# Altium footprint library Passive_Old.PcbLib: 221 footprints (part 14 of 14)
Each footprint in its own frame and in the unit in brackets; x right, y up, seen from the top. Pads: shape width x height; smd on the part's side, far side on the other; paste and mask are expansions set on the pad; w line width, h text height; cw(c..) or ccw(c..) is an arc to the next point about the centre after c.
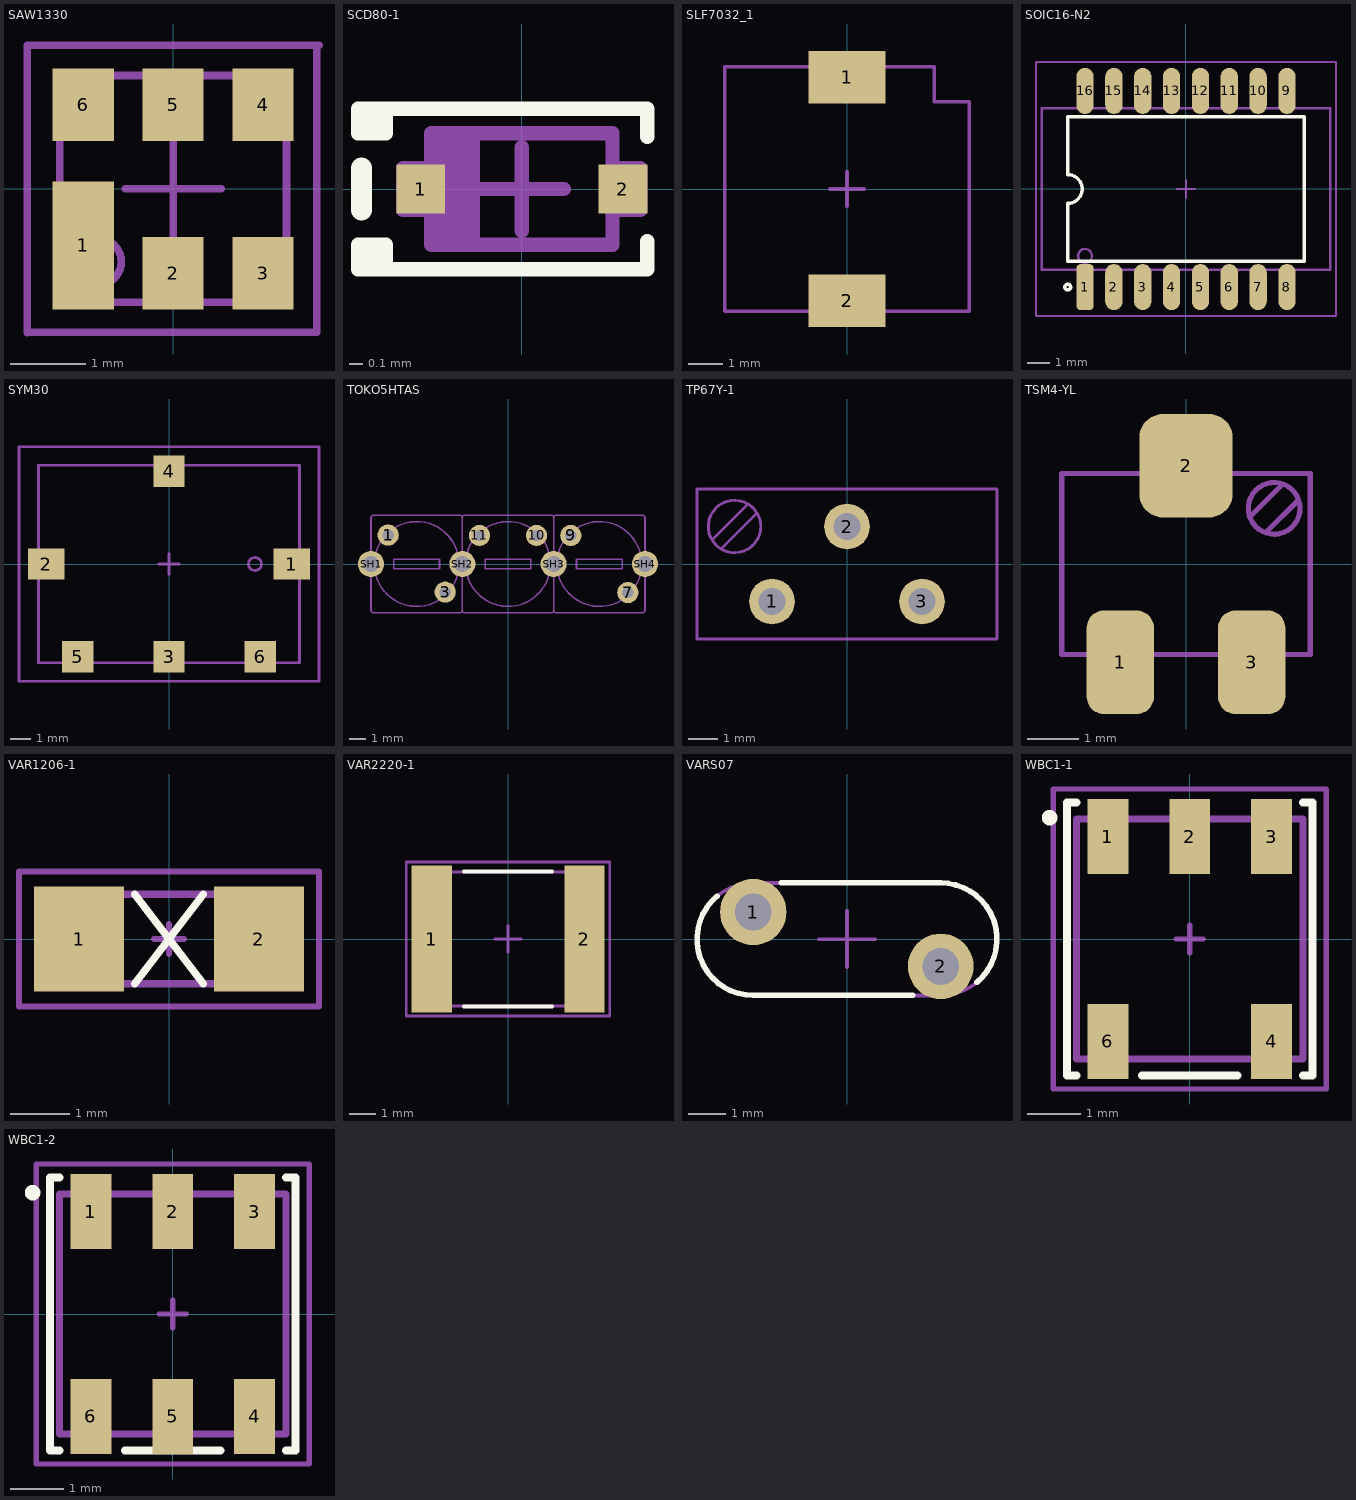
[diagram p13: the footprints below, top view; thin cyan lines are the x and y axes]

## SAW1330 [mm] "SAW filter 8 pin 5MM + 6 PIN 3.8MM; R1.27mm"
height 1.35
pads (6):
  rect 0.81x1.7 smd: 1(-1.19,-0.75)
  rect 0.81x0.96 smd: 2(0,-1.115) 3(1.19,-1.115) 4(1.19,1.115) 5(0,1.115) 6(-1.19,1.115)
Mechanical 13:
  circle w0.102: c-0.991,-0.965 r0.305
  lines w0.1: -1.5,-1.5 -1.5,1.5 1.5,1.5 1.5,-1.5 -1.5,-1.5
Mechanical 15:
  lines w0.102: -1.93,-1.905 -1.93,1.9 1.93,1.9 ; -1.9,-1.9 1.9,-1.9 1.9,1.9 ; -0.635,0 0.635,0 ; 0,-0.635 0,0.635
3D body: height 1.35, standoff 0, extent -1.473,-1.448 1.448,1.448

## SCD80-1 [mm] "SCD80 diode"
height 0.7
pads (2):
  rect 0.35x0.35 smd mask+0.025: 1(-0.725,0) 2(0.725,0)
Top Overlay:
  lines w0.102: -1.1,-0.575 0.9,-0.575 ; -1.1,0.575 0.9,0.575 ; -1.075,-0.4 -1.075,-0.575 -0.975,-0.575 -0.975,-0.4 -1.175,-0.4 -1.175,-0.575 -0.85,-0.575 ; -1.075,0.4 -1.075,0.575 -0.975,0.575 -0.975,0.4 -1.175,0.4 -1.175,0.575 -0.85,0.575 ; 0.9,-0.55 0.9,-0.375 ; 0.9,0.375 0.9,0.55
  lines w0.15: -1.15,-0.15 -1.15,0.15
Top Solder:
  pour cut-out: 0.473,-0.252 0.977,-0.252 0.977,0.251 0.473,0.251 0.473,0 0.524,0 0.524,0.201 0.926,0.201 0.926,-0.201 0.524,-0.201 0.524,0 0.473,0
  pour cut-out: -0.473,-0.252 -0.977,-0.252 -0.977,0.251 -0.473,0.251 -0.473,0 -0.524,0 -0.524,0.201 -0.926,0.201 -0.926,-0.201 -0.524,-0.201 -0.524,0 -0.473,0
Mechanical 13:
  lines w0.102: -0.65,-0.15 -0.85,-0.15 -0.85,0.15 -0.65,0.15 ; -0.55,-0.4 -0.55,0.4 ; -0.45,-0.4 -0.45,0.4 ; -0.35,-0.4 -0.35,0.4 ; 0.65,-0.15 0.85,-0.15 0.85,0.15 0.65,0.15 ; -0.65,-0.4 0.65,-0.4 0.65,0.4 -0.65,0.4 -0.65,0 -0.65,-0.4
Mechanical 15:
  lines w0.102: -0.3,0 0.3,0 ; 0,-0.3 0,0.3
3D body: height 0.13, standoff 0, extent -0.85,-0.15 -0.65,0.15
3D body: height 0.71, standoff 0.7, extent -0.65,-0.4 -0.35,0.4
3D body: height 0.7, standoff 0, extent -0.65,-0.4 0.65,0.4
3D body: height 0.13, standoff 0, extent 0.65,-0.15 0.85,0.15

## SLF7032_1 [mm] "SMD Inductor for power line"
height 3.2
pads (2):
  rect 2.2x1.5 smd: 1(0,3.2) 2(0,-3.2)
Mechanical 13:
  lines w0.102: -3.5,-3.5 -3.5,3.5 2.5,3.5 2.5,2.5 3.5,2.5 3.5,-3.5 -3.5,-3.5
Mechanical 15:
  lines w0.102: -0.5,0 0.5,0 ; 0,-0.5 0,0.5
3D body: height 0.1, standoff 0, extent -1.1,2.425 1.1,3.5
3D body: height 0.1, standoff 0, extent -1.1,-3.5 1.1,-2.425
3D body: height 3, standoff 0.1, extent -3.5,-3.5 3.5,3.5
3D body: height 3.19, standoff 3, extent -3.511,-3.511 3.511,3.511
3D body: height 3.2, standoff 3.19, extent -1.211,1.4 1.206,2.111

## SOIC16-N2 [mil] "Small IC 16 pin transformer"
height 200
pads (16):
  rrect50% 30x80 smd: 1(-175,-170)
  oval 30x80 smd: 2(-125,-170) 3(-75,-170) 4(-25,-170) 5(25,-170) 6(75,-170) 7(125,-170) 8(175,-170) 9(175,170) 10(125,170) 11(75,170) 12(25,170) 13(-25,170) 14(-75,170) 15(-125,170) 16(-175,170)
Top Overlay:
  circle w5.91: c-205,-170 r5
  lines w5.91: 204,-125 -205,-125 -205,-25 ccw(c-205,0) -205,25 -205,125 205,125 205,-125
Mechanical 13:
  circle w4: c-175,-116 r12
  lines w4: -250,-140 -250,140 250,140 250,-140 -250,-140
Mechanical 15:
  lines w4: -15,0 15,0 ; 0,-15 0,15 ; -260,-220 -260,220 260,220 260,-220 -260,-220
3D body: height 220.47, standoff 7.87, extent -250,-140 250,140
3D body: height 222.44, standoff 220.47, extent -190.62,-131.71 -159.25,-100.27
3D body: height 49.21, standoff 39.37, extent -185,-160 -165,-140
3D body: height 39.37, standoff 0, extent -185,-160 -165,-150
3D body: height 9.84, standoff 0, extent -185,-190 -165,-160
3D body: height 9.84, standoff 0, extent -135,-190 -115,-160
3D body: height 39.37, standoff 0, extent -135,-160 -115,-150
3D body: height 49.21, standoff 39.37, extent -135,-160 -115,-140
3D body: height 9.84, standoff 0, extent -85,-190 -65,-160
3D body: height 39.37, standoff 0, extent -85,-160 -65,-150
3D body: height 49.21, standoff 39.37, extent -85,-160 -65,-140
3D body: height 9.84, standoff 0, extent -35,-190 -15,-160
3D body: height 39.37, standoff 0, extent -35,-160 -15,-150
3D body: height 49.21, standoff 39.37, extent -35,-160 -15,-140
3D body: height 9.84, standoff 0, extent 15,-190 35,-160
3D body: height 39.37, standoff 0, extent 15,-160 35,-150
3D body: height 49.21, standoff 39.37, extent 15,-160 35,-140
3D body: height 9.84, standoff 0, extent 65,-190 85,-160
3D body: height 39.37, standoff 0, extent 65,-160 85,-150
3D body: height 49.21, standoff 39.37, extent 65,-160 85,-140
3D body: height 9.84, standoff 0, extent 115,-190 135,-160
3D body: height 39.37, standoff 0, extent 115,-160 135,-150
3D body: height 49.21, standoff 39.37, extent 115,-160 135,-140
3D body: height 9.84, standoff 0, extent 165,-190 185,-160
3D body: height 39.37, standoff 0, extent 165,-160 185,-150
3D body: height 49.21, standoff 39.37, extent 165,-160 185,-140
3D body: height 9.84, standoff 0, extent 165,160 185,190
3D body: height 39.37, standoff 0, extent 165,150 185,160
3D body: height 49.21, standoff 39.37, extent 165,140 185,160
3D body: height 9.84, standoff 0, extent 115,160 135,190
3D body: height 39.37, standoff 0, extent 115,150 135,160
3D body: height 49.21, standoff 39.37, extent 115,140 135,160
3D body: height 9.84, standoff 0, extent 65,160 85,190
3D body: height 39.37, standoff 0, extent 65,150 85,160
3D body: height 49.21, standoff 39.37, extent 65,140 85,160
3D body: height 9.84, standoff 0, extent 15,160 35,190
3D body: height 39.37, standoff 0, extent 15,150 35,160
3D body: height 49.21, standoff 39.37, extent 15,140 35,160
3D body: height 9.84, standoff 0, extent -35,160 -15,190
3D body: height 39.37, standoff 0, extent -35,150 -15,160
3D body: height 49.21, standoff 39.37, extent -35,140 -15,160
3D body: height 9.84, standoff 0, extent -85,160 -65,190
3D body: height 39.37, standoff 0, extent -85,150 -65,160
3D body: height 49.21, standoff 39.37, extent -85,140 -65,160
3D body: height 9.84, standoff 0, extent -135,160 -115,190
3D body: height 39.37, standoff 0, extent -135,150 -115,160
3D body: height 49.21, standoff 39.37, extent -135,140 -115,160
3D body: height 9.84, standoff 0, extent -185,160 -165,190
3D body: height 39.37, standoff 0, extent -185,150 -165,160
3D body: height 49.21, standoff 39.37, extent -185,140 -165,160

## SYM30 [mil]
pads (6):
  rect 70x60 smd: 1(235,0) 2(-235,0)
  rect 60x60 smd: 3(0,-178) 4(0,178) 5(-175,-178) 6(175,-178)
Mechanical 13:
  circle w5: c164.72,0 r12.45
  lines w5: -250,-188.98 250,-188.98 250,188.98 -250,188.98 -250,-188.98
Mechanical 15:
  lines w5: -20,0 20,0 ; 0,-20 0,20 ; -287.4,-224.41 287.4,-224.41 287.4,224.41 -287.4,224.41 -287.4,-224.41
3D body: height 231, standoff 230, extent 151.75,-13.25 177.4,13.24
3D body: height 230, standoff 0, extent -250,-188.98 250,188.98

## TOKO5HTAS [mm] "Filter 5HT AS THT"
height 8.3
pads (10):
  round 1.3 hole 0.7: 1(-7.35,1.775) 3(-3.85,-1.725) 7(7.35,-1.75) 9(3.85,1.75) 10(1.75,1.75) 11(-1.75,1.75)
  round 1.6 hole 1: SH1(-8.4,0) SH2(-2.8,0) SH3(2.8,0) SH4(8.4,0)
Mechanical 13:
  circle w0.1: c0,0 r2.6
  circle w0.1: c5.6,0 r2.6
  circle w0.1: c-5.6,0 r2.6
  lines w0.1: -2.8,-2.9 -2.7,-3 2.7,-3 2.8,-2.9 ; -2.8,-2.9 -2.8,2.9 ; -2.8,-2.9 -2.8,2.9 ; -2.8,-2.9 -2.9,-3 -8.3,-3 -8.4,-2.9 -8.4,2.9 -8.3,3 -2.9,3 -2.8,2.9 ; -2.8,2.9 -2.7,3 2.7,3 2.8,2.9 ; 2.8,-2.9 2.8,2.9 ; 2.8,-2.9 2.8,2.9 ; 2.8,-2.9 2.9,-3 8.3,-3 8.4,-2.9 8.4,2.9 8.3,3 2.9,3 2.8,2.9 ; -7,-0.3 -7,0.3 -4.2,0.3 -4.2,-0.3 -7,-0.3 ; -1.4,-0.3 1.4,-0.3 1.4,0.3 -1.4,0.3 -1.4,-0.3 ; 4.2,-0.3 4.2,0.3 7,0.3 7,-0.3 4.2,-0.3
3D body: height 8.3, standoff 0, extent -8.4,-3 8.4,3

## TP67Y-1 [mm] "Trimmer potentiometer vertical 10X5X10mm W"
height 10.5
pads (3):
  round 1.55 hole 0.9: 1(-2.54,-1.27) 2(0,1.27) 3(2.54,-1.27)
Mechanical 13:
  circle w0.1: c-3.81,1.27 r0.889
  lines w0.102: -4.572,0.813 -3.353,2.032 ; -4.267,0.508 -3.048,1.727 ; -5.08,-2.54 -5.08,2.54 5.08,2.54 5.08,-2.54 -5.08,-2.54
3D body: height 12, standoff 10.4, extent -4.708,0.367 -2.913,2.158
3D body: height 10.4, standoff 0, extent -5.08,-2.54 5.08,2.54

## TSM4-YL [mm] "Trimmer potentiometer vertical 4.8X3.5X5.1mm"
height 5.1
pads (3):
  rrect50% 1.3x2 smd: 1(-1.27,-1.9) 3(1.27,-1.9)
  rrect50% 1.8x2 smd: 2(0,1.9)
Mechanical 13:
  circle w0.1: c1.705,1.075 r0.5
  lines w0.102: 1.233,0.907 1.868,1.542 ; 1.542,0.608 2.172,1.238 ; -2.4,-1.75 -2.4,1.75 2.4,1.75 2.4,-1.75 -2.4,-1.75
3D body: height 0.15, standoff 0, extent 0.87,-2.4 1.67,-1.3
3D body: height 0.15, standoff 0, extent -1.67,-2.4 -0.87,-1.3
3D body: height 0.15, standoff 0, extent -0.4,1.3 0.4,2.4
3D body: height 5.2, standoff 4.6, extent 1.487,0.565 2.21,1.275
3D body: height 5.2, standoff 4.6, extent 1.19,0.875 1.913,1.585
3D body: height 5.1, standoff 0.1, extent -2.4,-1.75 2.4,1.75
3D body: height 4.6, standoff 0.1, extent 1.19,0.565 2.21,1.585

## VAR1206-1 [mil] "Chip varistor 1206"
height 61.02
pads (2):
  rect 60x70 smd: 1(-60,0) 2(60,0)
Top Overlay:
  lines w5: -22.99,-30 22.99,30 ; -22.99,30 22.99,-30
Mechanical 13:
  lines w5: -60,-30 60,-30 60,30 -60,30 -60,-30
Mechanical 15:
  lines w3.94: -10,0 10,0 ; 0,-10 0,10 ; -100,-45 100,-45 100,45 -100,45 -100,-45
3D body: height 47.24, standoff 0.39, extent -60,-30 60,30
3D body: height 47.64, standoff 0, extent -39.37,-30.32 39.37,30.32

## VAR2220-1 [mm] "Varistor capacitor 2220"
height 2.5
pads (2):
  rect 1.5x5.5 smd: 1(-2.85,0) 2(2.85,0)
Top Overlay:
  lines w0.15: -1.65,-2.525 1.65,-2.525 ; -1.65,2.525 1.65,2.525
Mechanical 13:
  lines w0.1: -2.85,-2.5 -2.85,2.5 2.85,2.5 2.85,-2.5 -2.85,-2.5
Mechanical 15:
  lines w0.1: -0.5,0 0.5,0 ; 0,-0.5 0,0.5 ; -3.8,-2.875 -3.8,2.875 3.8,2.875 3.8,-2.875 -3.8,-2.875
3D body: height 1.8, standoff 0, extent 2.2,-2.5 2.85,2.5
3D body: height 1.8, standoff 0, extent -2.85,-2.5 -2.2,2.5
3D body: height 1.8, standoff 0, extent -2.2,-2.5 2.2,2.5

## VARS07 [mm]
pads (2):
  round 1.8 hole 1: 1(-2.54,0.737)
  round 1.778 hole 1: 2(2.54,-0.737)
Top Overlay:
  lines w0.15: -3.52,1.167 ccw(c-2.54,0) -2.54,-1.524 1.778,-1.524 ; -1.778,1.524 2.54,1.524 cw(c2.54,0) 3.52,-1.167
Mechanical 13:
  lines w0.102: -2.54,-1.524 cw(c-2.54,0) -2.54,1.524 2.54,1.524 cw(c2.54,0) 2.54,-1.524 -2.54,-1.524
Mechanical 15:
  lines w0.102: -0.762,0 0.762,0 ; 0,-0.762 0,0.762
3D body: height 0.5, standoff -3, extent -2.946,0.333 -2.134,1.143
3D body: height 8.99, standoff 1.01, extent -3.984,-1.524 3.984,1.524
3D body: height 5, standoff 0.5, extent -3.344,-0.073 -1.75,1.524
3D body: height 5, standoff 0.5, extent 1.75,-1.524 3.344,0.073
3D body: height 0.5, standoff -3, extent 2.134,-1.143 2.946,-0.333

## WBC1-1 [mil] "RF transformer 5pin"
height 120
pads (5):
  rect 30x55 smd: 1(-60,75) 2(0,75) 3(60,75) 4(60,-75) 6(-60,-75)
Top Overlay:
  circle w5.91: c-102.76,89 r2.76
  lines w5.91: -83,-100 -90,-100 -90,100 -83,100 ; -35,-100 35,-100 ; 83,-100 90,-100 90,100 83,100
Mechanical 13:
  circle w4: c-60,64 r10
  lines w5: -83,-88 83,-88 83,88 -83,88 -83,-88
Mechanical 15:
  lines w3.94: -10,0 10,0 ; 0,-10 0,10
  lines w4: -100,-110 -100,110 100,110 100,-110 -100,-110
3D body: height 31.89, standoff 31.5, extent -60.2,45.8 -39.8,66.2
3D body: height 141.73, standoff 47.24, extent -14.76,-42.32 14.76,42.32
3D body: height 141.73, standoff 47.24, extent 55.12,-42.32 70.87,42.32
3D body: height 141.73, standoff 47.24, extent -70.87,-42.32 -55.12,42.32
3D body: height 157.48, standoff 141.73, extent -70.87,-42.32 70.87,42.32
3D body: height 31.5, standoff 0, extent -83,-88 83,88
3D body: height 47.24, standoff 31.5, extent -70.87,-42.32 70.87,42.32
3D body: height 82.68, standoff 70.87, extent -51.18,-59.05 51.18,59.06
3D body: height 114.17, standoff 102.36, extent -51.18,-59.06 51.18,59.06
3D body: height 66.93, standoff 55.12, extent -51.18,-59.06 51.18,59.06
3D body: height 98.43, standoff 86.61, extent -51.18,-59.06 51.18,59.06
3D body: height 129.92, standoff 118.11, extent -51.18,-59.06 51.18,59.06

## WBC1-2 [mil] "RF transformer 6pin"
height 120.08
pads (6):
  rect 30x55 smd: 1(-60,75) 2(0,75) 3(60,75) 4(60,-75) 5(0,-75) 6(-60,-75)
Top Overlay:
  circle w5.91: c-102.76,89 r2.76
  lines w5.91: -83,-100 -90,-100 -90,100 -83,100 ; -35,-100 35,-100 ; 83,-100 90,-100 90,100 83,100
Mechanical 13:
  circle w4: c-60,64 r10
  lines w5: -83,-88 -83,88 83,88 83,-88 -83,-88
Mechanical 15:
  lines w3.94: -10,0 10,0 ; 0,-10 0,10
  lines w4: -100,-110 -100,110 100,110 100,-110 -100,-110
3D body: height 120, standoff 0, extent -83,-88 83,88